# Altium footprint library PcbLib1.PcbLib: 13 footprints
Each footprint in its own frame and in the unit in brackets; x right, y up, seen from the top. Pads: shape width x height; smd on the part's side, far side on the other; paste and mask are expansions set on the pad; w line width, h text height; cw(c..) or ccw(c..) is an arc to the next point about the centre after c.
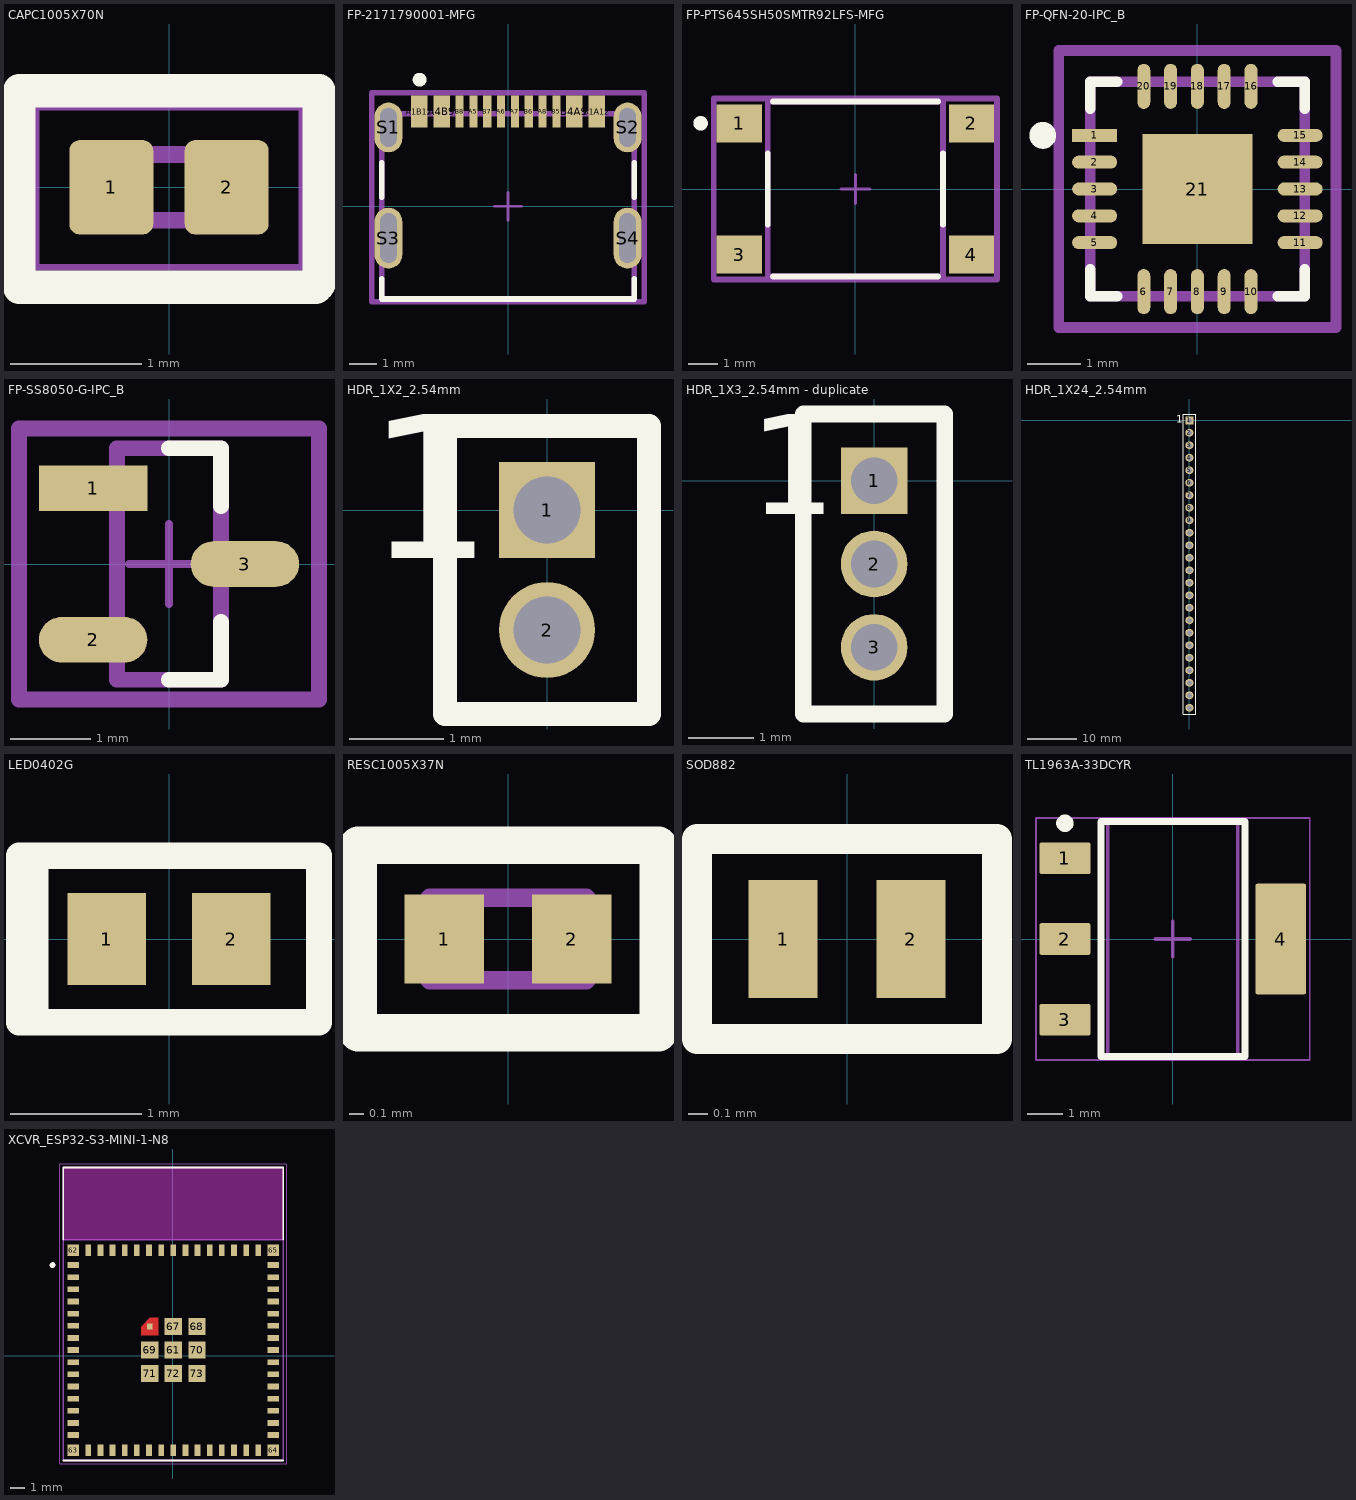
[diagram p0: the footprints below, top view; thin cyan lines are the x and y axes]

## CAPC1005X70N [mm]
height 0.7
pads (2):
  rrect25% 0.64x0.72 smd: 1(-0.44,0) 2(0.44,0)
Top Overlay:
  lines w0.254: -1.143,-0.762 1.118,-0.762 1.143,-0.737 1.143,0.711 1.143,0.737 -1.143,0.737 -1.143,-0.762
Mechanical 13:
  lines w0.127: -0.5,-0.25 -0.5,0.25 0.5,0.25 0.5,-0.25 -0.5,-0.25
Mechanical 15:
  lines w0.05: -1.01,-0.61 1.01,-0.61 1.01,0.61 -1.01,0.61 -1.01,-0.61
3D body "step_temp.STEP": height 0.55, standoff 0, extent -0.5,-0.25 0.5,0.25

## FP-2171790001-MFG [mm]
pads (16):
  rect 0.6x1.15 smd paste+0 mask+0: A1B12(-3.2,3.425) A4B9(-2.4,3.425) B1A12(3.2,3.425) B4A9(2.4,3.425)
  rect 0.3x1.15 smd paste+0 mask+0: A5(-1.25,3.425) A6(-0.25,3.425) A7(0.25,3.425) A8(1.25,3.425) B5(1.75,3.425) B6(0.75,3.425) B7(-0.75,3.425) B8(-1.75,3.425)
  rrect100% 1x1.8 hole 1.4 slot 0.6 at 0 deg paste-2539.97 mask+0: S1(-4.32,2.85) S2(4.32,2.85)
  rrect100% 1x2.2 hole 1.8 slot 0.6 at 0 deg paste-2539.97 mask+0: S3(-4.32,-1.15) S4(4.32,-1.15)
Top Overlay:
  circle w0.25: c-3.195,4.575 r0.125
  lines w0.2: -4.57,-2.625 -4.57,-3.35 4.57,-3.35 4.57,-2.625 ; -4.57,0.325 -4.57,1.575 ; 4.57,0.325 4.57,1.575
Top 3D Body:
  lines w0.2: -4.57,-3.35 4.57,-3.35 4.57,3.35 -4.57,3.35 -4.57,-3.35
Top Courtyard:
  lines w0.2: -4.92,-3.45 4.92,-3.45 4.92,4.1 -4.92,4.1 -4.92,-3.45
Top Assembly:
  lines w0.2: -4.92,-3.45 4.92,-3.45 4.92,4.1 -4.92,4.1 -4.92,-3.45
  text ".Designator" at 0,0.513 h1
Top Component Center:
  lines w0.1: -0.5,0 0.5,0 ; 0,-0.5 0,0.5
3D body "Conn_Molex_2171790001_eec.STEP": height 0.25, standoff 0, extent -4.92,-3.45 4.92,4.1

## FP-PTS645SH50SMTR92LFS-MFG [mm]
pads (4):
  rect 1.55x1.3 smd paste+0 mask+0: 1(-3.975,2.25) 2(3.975,2.25) 3(-3.975,-2.25) 4(3.975,-2.25)
Top Overlay:
  circle w0.25: c-5.3,2.25 r0.125
  lines w0.2: -3,-1.225 -3,1.225 ; -2.825,-3 2.825,-3 ; -2.825,3 2.825,3 ; 3,-1.225 3,1.225
Top 3D Body:
  lines w0.2: -3,-3 3,-3 3,3 -3,3 -3,-3
Top Courtyard:
  lines w0.2: -4.85,-3.1 4.85,-3.1 4.85,3.1 -4.85,3.1 -4.85,-3.1
Top Assembly:
  lines w0.2: -4.85,-3.1 4.85,-3.1 4.85,3.1 -4.85,3.1 -4.85,-3.1
  text ".Designator" at 0,0.188 h1
Top Component Center:
  lines w0.1: -0.5,0 0.5,0 ; 0,-0.5 0,0.5
3D body "User Library-PTS645SL50SMTR92-LFS.STEP": height 5, standoff 0, extent -4.5,-3 4.5,3

## FP-QFN-20-IPC_B [mm]
pads (21):
  rect 0.84x0.242 smd paste+0 mask+0: 1(-1.916,1)
  rrect100% 0.84x0.242 smd paste+0 mask+0: 2(-1.916,0.5) 3(-1.916,0) 4(-1.916,-0.5) 5(-1.916,-1) 11(1.916,-1) 12(1.916,-0.5) 13(1.916,0) 14(1.916,0.5) 15(1.916,1)
  rrect100% 0.242x0.84 smd paste+0 mask+0: 6(-1,-1.916) 7(-0.5,-1.916) 8(0,-1.916) 9(0.5,-1.916) 10(1,-1.916) 16(1,1.916) 17(0.5,1.916) 18(0,1.916) 19(-0.5,1.916) 20(-1,1.916)
  rect 2.05x2.05 smd paste-1000 mask+0: 21(0,0)
Top Overlay:
  circle w0.25: c-2.885,1 r0.125
  lines w0.2: -2,-1.5 -2,-2 -1.5,-2 ; -2,1.5 -2,2 -1.5,2 ; 1.5,-2 2,-2 2,-1.5 ; 1.5,2 2,2 2,1.5
Top Paste:
  rectangle: -0.648,-0.648 0.648,0.648
Top 3D Body:
  lines w0.2: -2,-2 2,-2 2,2 -2,2 -2,-2
Top Courtyard:
  lines w0.2: -2.585,-2.585 2.585,-2.585 2.585,2.585 -2.585,2.585 -2.585,-2.585
Top Assembly:
  lines w0.2: -2.585,-2.585 2.585,-2.585 2.585,2.585 -2.585,2.585 -2.585,-2.585
  text ".Designator" at 0,0.188 h1
Top Component Center:
  lines w0.1: -0.5,0 0.5,0 ; 0,-0.5 0,0.5
3D body "IC_FTDI_FT231XQ-R_eec.STEP": height 0.25, standoff 0, extent -2.585,-2.585 2.585,2.585

## FP-SS8050-G-IPC_B [mm]
pads (3):
  rect 1.357x0.572 smd paste+0 mask+0: 1(-0.951,0.95)
  rrect100% 1.357x0.572 smd paste+0 mask+0: 2(-0.951,-0.95) 3(0.951,0)
Top Overlay:
  lines w0.2: 0,-1.45 0.65,-1.45 0.65,-0.725 ; 0,1.45 0.65,1.45 0.65,0.725
Top 3D Body:
  lines w0.2: -0.65,-1.45 0.65,-1.45 0.65,1.45 -0.65,1.45 -0.65,-1.45
Top Courtyard:
  lines w0.2: -1.879,-1.7 1.879,-1.7 1.879,1.7 -1.879,1.7 -1.879,-1.7
Top Assembly:
  lines w0.2: -1.879,-1.7 1.879,-1.7 1.879,1.7 -1.879,1.7 -1.879,-1.7
  text ".Designator" at 0,-0.001 h1
Top Component Center:
  lines w0.1: -0.5,0 0.5,0 ; 0,-0.5 0,0.5
3D body "Trans_Comchip_SS8050-G_eec.STEP": height 0.25, standoff 0, extent -1.879,-1.7 1.879,1.7

## HDR_1X2_2.54mm [mil]
pads (2):
  rect 40x40 hole 28: 1(0,0)
  round 40 hole 28: 2(0,-50)
Top Overlay:
  lines w10: -42.5,-85 -42.5,35 42.5,35 42.5,-85 -42.5,-85
  text "1" at -75,-20 h60
3D body "FTS-102-01-F-S.stp": height 154, standoff -90, extent -42.5,-75 42.5,25

## HDR_1X3_2.54mm - duplicate [mil]
pads (3):
  rect 40x40 hole 28: 1(0,0)
  round 40 hole 28: 2(0,-50) 3(0,-100)
Top Overlay:
  lines w10: -42.5,-140 -42.5,40 42.5,40 42.5,-140 -42.5,-140
  text "1" at -75,-20 h60
3D body "FTS-103-01-F-S.stp": height 90, standoff -154, extent -42.5,-125 42.5,25

## HDR_1X24_2.54mm [mil]
pads (24):
  rect 64x64 hole 40: 1(0,0)
  round 64 hole 40: 2(0,-100) 3(0,-200) 4(0,-300) 5(0,-400) 6(0,-500) 7(0,-600) 8(0,-700) 9(0,-800) 10(0,-900) 11(0,-1000) 12(0,-1100) 13(0,-1200) 14(0,-1300) 15(0,-1400) 16(0,-1500) 17(0,-1600) 18(0,-1700) 19(0,-1800) 20(0,-1900) 21(0,-2000) 22(0,-2100) 23(0,-2200) 24(0,-2300)
Top Overlay:
  lines w10: -50,-2350 -50,50 50,50 50,-2350 -50,-2350
  text "1" at -105,-20 h60
3D body "022284245.stp": height 403, standoff -102, extent -49,-2350 49,50

## LED0402G [mm]
pads (2):
  rect 0.6x0.7 smd: 1(-0.475,0) 2(0.475,0)
Top Overlay:
  lines w0.2: -1.02,-0.635 -1.02,0 -1.02,0.635 ; -1.016,-0.635 1.143,-0.635 ; 1.143,-0.635 1.143,0.635 -1.143,0.635 -1.143,-0.635 1.143,-0.635
3D body "LED_00-GS08_VIS.step": height 0.36, standoff 0, extent -0.495,-0.254 0.495,0.254

## RESC1005X37N [mm]
pads (2):
  rect 0.54x0.6 smd: 1(-0.432,0) 2(0.432,0)
Top Overlay:
  lines w0.254: -1.016,-0.508 -1.016,0.635 ; -1.016,0.635 -1.016,-0.635 1.016,-0.635 1.016,0.635 -1.016,0.635
Mechanical 13:
  lines w0.127: -0.53,-0.28 -0.53,0.28 0.53,0.28 0.53,-0.28 -0.53,-0.28
Mechanical 15:
  lines w0.05: -0.95,-0.55 -0.95,0.55 0.95,0.55 0.95,-0.55 -0.95,-0.55
3D body "step_temp.STEP": height 0.37, standoff 0, extent -0.5,-0.25 0.5,0.25

## SOD882 [mm]
pads (2):
  rect 0.35x0.6 smd: 1(-0.325,0) 2(0.325,0)
Top Overlay:
  lines w0.152: -0.762,-0.508 -0.762,0.508 0.762,0.508 0.762,-0.508 -0.762,-0.508
3D body "RTVS_SOD882_LTF.step": height 0.56, standoff 0, extent -0.546,-0.33 0.546,0.33

## TL1963A-33DCYR [mm] "SOT223, 4-Leads, Body 6.7x3.7mm, Pitch 2.3mm, IPC High Density"
height 1.8
pads (4):
  rrect11% 1.45x0.9 smd: 1(-3.075,2.3) 2(-3.075,0) 3(-3.075,-2.3)
  rrect7% 1.45x3.15 smd: 4(3.075,0)
Top Overlay:
  circle w0.25: c-3.075,3.3 r0.125
  lines w0.2: -2.05,-3.35 2.05,-3.35 2.05,3.35 -2.05,3.35 -2.05,-3.35
Mechanical 1:
  text ".Designator" at -1.651,-0.381 h0.8
Mechanical 13:
  lines w0.1: -1.85,-3.35 1.85,-3.35 1.85,3.35 -1.85,3.35 -1.85,-3.35
Mechanical 15:
  lines w0.05: -3.9,-3.45 3.9,-3.45 3.9,3.45 -3.9,3.45 -3.9,-3.45
  lines w0.1: -0.5,0 0.5,0 ; 0,-0.5 0,0.5
3D body "SOT-223.stp": height 1.62, standoff -0.03, extent -3.5,-3.25 3.5,3.25

## XCVR_ESP32-S3-MINI-1-N8 [mm]
height 2.55
pads (73):
  rect 0.8x0.4 smd: 1(-6.949,6.356) 2(-6.949,5.506) 3(-6.949,4.656) 4(-6.949,3.806) 5(-6.949,2.956) 6(-6.949,2.106) 7(-6.949,1.256) 8(-6.949,0.406) 9(-6.949,-0.444) 10(-6.949,-1.294) 11(-6.949,-2.144) 12(-6.949,-2.994) 13(-6.949,-3.844) 14(-6.949,-4.694) 15(-6.949,-5.544) 31(7.051,-5.544) 32(7.051,-4.694) 33(7.051,-3.844) 34(7.051,-2.994) 35(7.051,-2.144) 36(7.051,-1.294) 37(7.051,-0.444) 38(7.051,0.406) 39(7.051,1.256) 40(7.051,2.106) 41(7.051,2.956) 42(7.051,3.806) 43(7.051,4.656) 44(7.051,5.506) 45(7.051,6.356)
  rect 0.4x0.8 smd: 16(-5.899,-6.594) 17(-5.049,-6.594) 18(-4.199,-6.594) 19(-3.349,-6.594) 20(-2.499,-6.594) 21(-1.649,-6.594) 22(-0.799,-6.594) 23(0.051,-6.594) 24(0.901,-6.594) 25(1.751,-6.594) 26(2.601,-6.594) 27(3.451,-6.594) 28(4.301,-6.594) 29(5.151,-6.594) 30(6.001,-6.594) 46(6.001,7.406) 47(5.151,7.406) 48(4.301,7.406) 49(3.451,7.406) 50(2.601,7.406) 51(1.751,7.406) 52(0.901,7.406) 53(0.051,7.406) 54(-0.799,7.406) 55(-1.649,7.406) 56(-2.499,7.406) 57(-3.349,7.406) 58(-4.199,7.406) 59(-5.049,7.406) 60(-5.899,7.406)
  rect 1.2x1.2 smd: 61(0.051,0.406) 67(0.051,2.056) 68(1.701,2.056) 69(-1.599,0.406) 70(1.701,0.406) 71(-1.599,-1.244) 72(0.051,-1.244) 73(1.701,-1.244)
  rect 0.8x0.8 smd: 62(-6.949,7.406) 63(-6.949,-6.594) 64(7.051,-6.594) 65(7.051,7.406)
  rect 0.4x0.4 smd paste-1 mask+0: 66(-1.599,2.056)
Top Layer:
  region: -0.999,1.456 -2.199,1.456 -2.199,2.056 -1.599,2.656 -0.999,2.656
Top Overlay:
  circle w0.2: c-8.399,6.356 r0.1
  lines w0.127: -7.649,-7.319 7.751,-7.319 ; -7.649,8.131 -7.649,13.181 7.751,13.181 7.751,8.131
Top Paste:
  region: -0.999,1.456 -2.199,1.456 -2.199,2.056 -1.599,2.656 -0.999,2.656
Top Solder:
  region: -0.899,1.356 -2.299,1.356 -2.299,2.106 -1.649,2.756 -0.899,2.756
Keep-Out Layer:
  region: 7.751,8.131 -7.649,8.131 -7.649,13.181 7.751,13.181
  region: 7.751,8.131 -7.649,8.131 -7.649,13.181 7.751,13.181
Top 3D Body:
  circle w0.2: c-8.399,6.356 r0.1
  lines w0.127: -7.649,8.131 7.751,8.131 ; -7.649,8.131 -7.649,13.181 7.751,13.181 7.751,8.131 ; -7.649,8.131 -7.649,-7.319 7.751,-7.319 7.751,8.131
Top Courtyard:
  lines w0.05: -7.899,-7.569 8.001,-7.569 8.001,13.431 -7.899,13.431 -7.899,-7.569
3D body "step_temp.STEP": height 2.55, standoff 0, extent -7.649,-7.319 7.751,13.181